# EAGLE library part TIC_T834 (library Group Electornics Library v80)
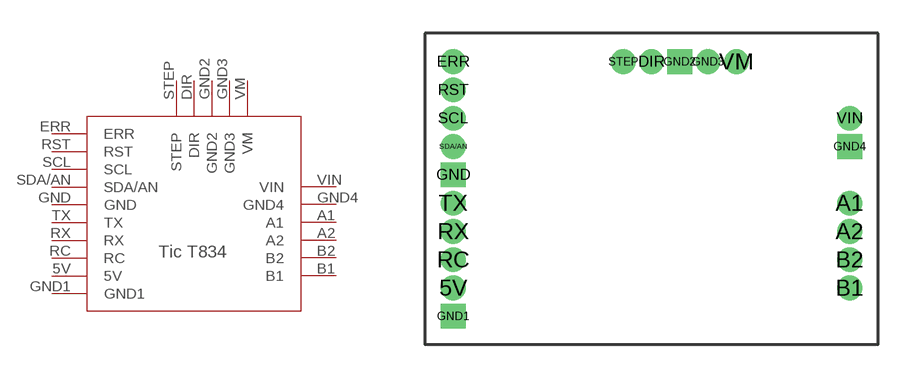
[diagram p11: symbol with the pads of TIC_T834; footprint TIC_T834]

Designator prefix TIC

## TIC_T834  [TIC_T834]
5V  5V  out
A1  A1
A2  A2
B1  B1
B2  B2
DIR  DIR
ERR  ERR
GND  GND
GND1  GND1
GND2  GND2
GND3  GND3
GND4  GND4
RC  RC
RST  RST
RX  RX
SCL  SCL
SDA/AN  SDA/AN
STEP  STEP
TX  TX
VIN  VIN
VM  VM

## Footprint TIC_T834 (pad centres in mm)
drill 0.6: 5V -8.89,-3.81; A1 8.89,0; A2 8.89,-1.27; B1 8.89,-3.81; B2 8.89,-2.54; DIR 0,6.35; ERR -8.89,6.35; GND3 2.54,6.35; RC -8.89,-2.54; RST -8.89,5.08; RX -8.89,-1.27; SCL -8.89,3.81; SDA/AN -8.89,2.54; STEP -1.27,6.35; TX -8.89,0; VIN 8.89,3.81; VM 3.81,6.35
drill 0.6 square: GND -8.89,1.27; GND1 -8.89,-5.08; GND2 1.27,6.35; GND4 8.89,2.54